# Altium schematic symbol library TSY-172LNB+.SchLib: 1 symbol
Pins are listed as number, name and electrical type; pins without a type are passive.

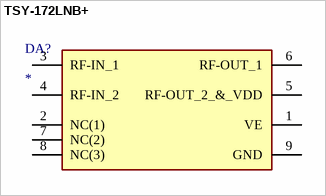
[diagram p0: symbol TSY-172LNB+]

## TSY-172LNB+
designator DA?
Monolithic Amplifier 0.03 to 1.7 GHz; Manufacturer_Name: Mini-Circuits; Manufacturer_Part_Number: TSY-172LNB+; Datasheet Link: https://www.minicircuits.com/WebStore/dashboardPdf?model=TSY-172LNB%2B; Height: 1.05mm; Mouser Part Number: 139-TSY-172LNB; Mouser Price/Stock: https://www.mouser.co.uk/ProductDetail/Mini-Circuits/TSY-172LNB%2b?qs=xZ%2FP%252Ba9zWqaAoVK%252Bp9bvBg%3D%3D
footprint SON50P200X200X105-9N-D
pins: 1 VE, 2 NC(1), 3 RF-IN_1, 4 RF-IN_2, 5 RF-OUT_2_&_VDD, 6 RF-OUT_1, 7 NC(2), 8 NC(3), 9 GND